# Altium schematic symbol library SN74AUC1G126DCK.SchLib: 1 symbol
Pins are listed as number, name and electrical type; pins without a type are passive.

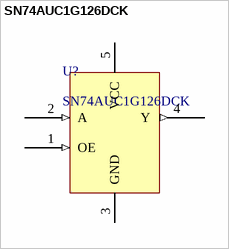
[diagram p0: symbol SN74AUC1G126DCK]

## SN74AUC1G126DCK
designator U?
pins: 1 OE (in), 2 A (in), 3 GND (power), 4 Y (out), 5 VCC (power)